# Altium schematic symbol library crystal_oscillators_rtc.SchLib: 12 symbols
Pins are listed as number, name and electrical type; pins without a type are passive.

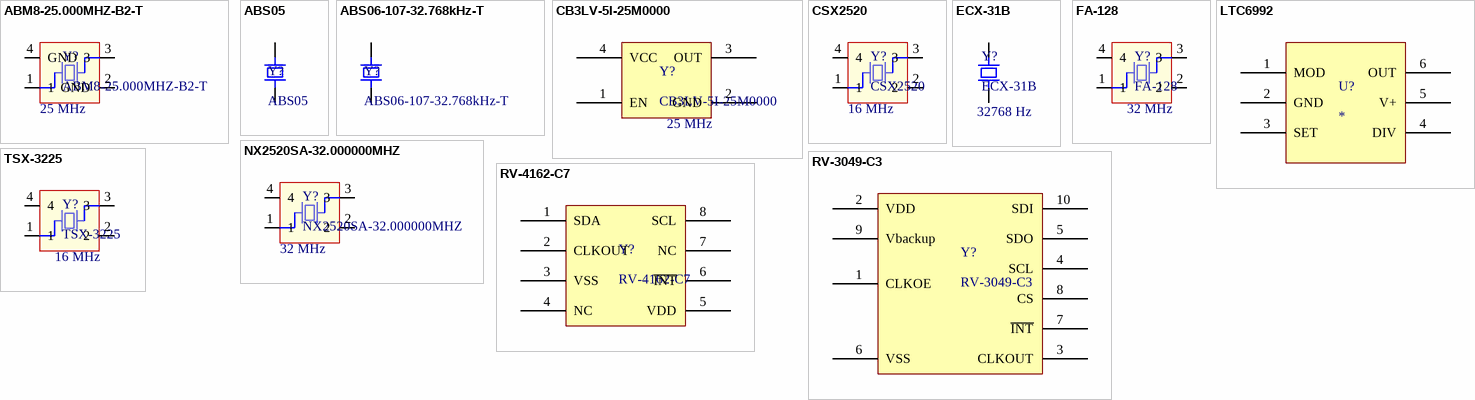
[diagram p0: symbols ABM8-25.000MHZ-B2-T to TSX-3225]

## ABM8-25.000MHZ-B2-T
designator Y?  Frequency: 25 MHz
Crystal 25.0000MHz 20ppm 18pF 50 Ohm; Frequency stability: 50 ppm; ESR: 50 ohm; Load capacitance: 18 pF; Frequency tolerance: 20 ppm; Supplier 1: Digi-Key; Supplier Part Number 1: 535-9140-1-ND
footprint ABM8
pins: 1, 2 GND, 3, 4 GND

## ABS05
designator Y?
32768 Hz SMD Low profile crystal; Supplier 1: Digi-Key; Supplier Part Number 1: 535-11899-1-ND
footprint ABS05 (ABS05 Crystal)
pins: 1, 2

## ABS06-107-32.768kHz-T
designator Y?
32768 Hz SMD Low ESR crystal; ESR: <80 kohm; CL: 4 pF; Shunt Capacitance: <1.7 pF; frequency: 32768 Hz; Supplier 1: Digi-Key; Supplier Part Number 1: 535-12373-1-ND
footprint ABS06 (ABS06 Crystal)
pins: 1, 2

## CB3LV-5I-25M0000
designator Y?  Frequency: 25 MHz
HCMOS/TTL Clock Oscillator; Supplier 1: Digi-Key; Supplier Part Number 1: CTX323LVCT-ND
footprint CB3LV (CTS CB3LV Oscillator)
pins: 1 EN, 2 GND, 3 OUT, 4 VCC

## CSX2520
designator Y?  Frequency: 16 MHz
Crystal oscillator; Load capacitance: 8 pF; Frequency stability: 15 ppm; Frequency tolerance: 10 ppm; ESR: 80 ohm; Supplier 1: Digi-Key; Supplier Part Number 1: 1253-1121-1-ND
footprint CX2520 (Kyocera CX2520 crystal)
pins: 1, 2, 3, 4

## ECX-31B
designator Y?  Frequency: 32768 Hz
SMD TUNING FORK CRYSTAL; Load capacitance: 9 pF; ESR: 70 Kohm; Shunt capacitance: 1.05 pF; Frequency tolerance: 20 ppm; Supplier 1: Digi-Key; Supplier Part Number 1: XC1950CT-ND
footprint ECX-31B
pins: 1, 2

## FA-128
designator Y?  frequency: 32 MHz
MHz Range Crystal Unit; Load capatance: 10 pF; ESR: 60; stability: 20 ppm; Supplier 1: Digi-Key; Supplier Part Number 1: SER3800CT-ND
footprint FA-128 (Seiko Epson FA-128 Crystal)
pins: 1, 2, 3, 4

## LTC6992
designator U?
TimerBlox: Voltage-Controlled Pulse   Width Modulator (PWM); Supplier 1: Digi-Key; Supplier Part Number 1: LTC6992CS6-1#TRMPBFTR-ND
footprint TSOT23-6 (SOT23, 6-Leads, Body 3.0x2.9mm (max), Pitch 0.95mm, IPC Medium Density)
pins: 1 MOD, 2 GND, 3 SET, 4 DIV, 5 V+, 6 OUT

## NX2520SA-32.000000MHZ
designator Y?  Frequency: 32 MHz
Crystal 32.0000MHz 10ppm 10pF 50 Ohm; ESR: 50 ohm; Load capacitance: 10 pF; Frequency stability: 10 ppm; Frequency tolerance: 10 ppm; Supplier 1: Digi-Key; Supplier Part Number 1: 644-1065-1-ND
footprint NX2520SA (NDK Crystal)
pins: 1, 2, 3, 4

## RV-3049-C3
designator Y?
Real Time Clock Module with SPI-Bus
footprint RV-3049-C3
pins: 1 CLKOE, 2 VDD, 3 CLKOUT, 4 SCL, 5 SDO, 6 VSS, 7 ~{INT}, 8 CS, 9 Vbackup, 10 SDI

## RV-4162-C7
designator Y?
Real Time Clock Module with I2C Bus; Supplier 1: Newark; Supplier Part Number 1: 09X0517
footprint RV4162 (RTC)
pins: 1 SDA, 2 CLKOUT, 3 VSS, 4 NC, 5 VDD, 6 ~{INT}, 7 NC, 8 SCL

## TSX-3225
designator Y?  frequency: 16 MHz
MHz Range Crystal Unit; Load capatance: 9 pF; ESR: 60; stability: 10 ppm; Supplier 1: Digi-Key; Supplier Part Number 1: SER3628CT-ND
footprint TSX-3225 (Seiko Epson TSX-3225 Crystal)
pins: 1, 2, 3, 4